# Altium schematic symbol library Memory.SchLib: 4 symbols
Pins are listed as number, name and electrical type; pins without a type are passive.

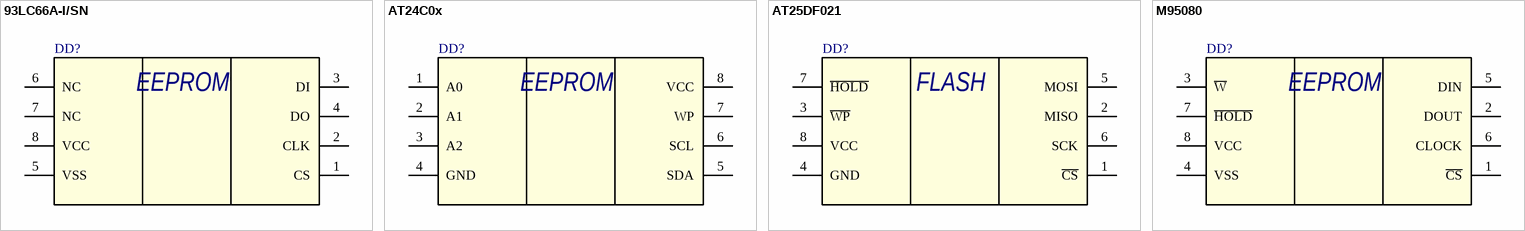
[diagram p0: symbols 93LC66A-I/SN to M95080]

## 93LC66A-I/SN
designator DD?
4K Microwire Compatible Serial EEPROM
pins: 1 CS (power), 2 CLK (power), 3 DI (power), 4 DO (power), 5 VSS (power), 6 NC (power), 7 NC (power), 8 VCC (power)
text: EEPROM

## AT24C0x
designator DD?
Two-wire  Serial EEPROM
pins: 1 A0 (power), 2 A1 (power), 3 A2 (power), 4 GND (power), 5 SDA (power), 6 SCL (power), 7 WP (power), 8 VCC (power)
text: EEPROM

## AT25DF021
designator DD?
SPI Serial Flash  Memory
pins: 1 ~{CS} (power), 2 MISO (power), 3 ~{WP} (power), 4 GND (power), 5 MOSI (power), 6 SCK (power), 7 ~{HOLD} (power), 8 VCC (power)
text: FLASH

## M95080
designator DD?
8-Kbit serial SPI bus EEPROM with high-speed clock
pins: 1 ~{CS} (power), 2 DOUT (power), 3 ~{W} (power), 4 VSS (power), 5 DIN (power), 6 CLOCK (power), 7 ~{HOLD} (power), 8 VCC (power)
text: EEPROM